# Altium integrated library Motorola Microcontroller 8-Bit.IntLib: 909 symbols (part 3 of 31)
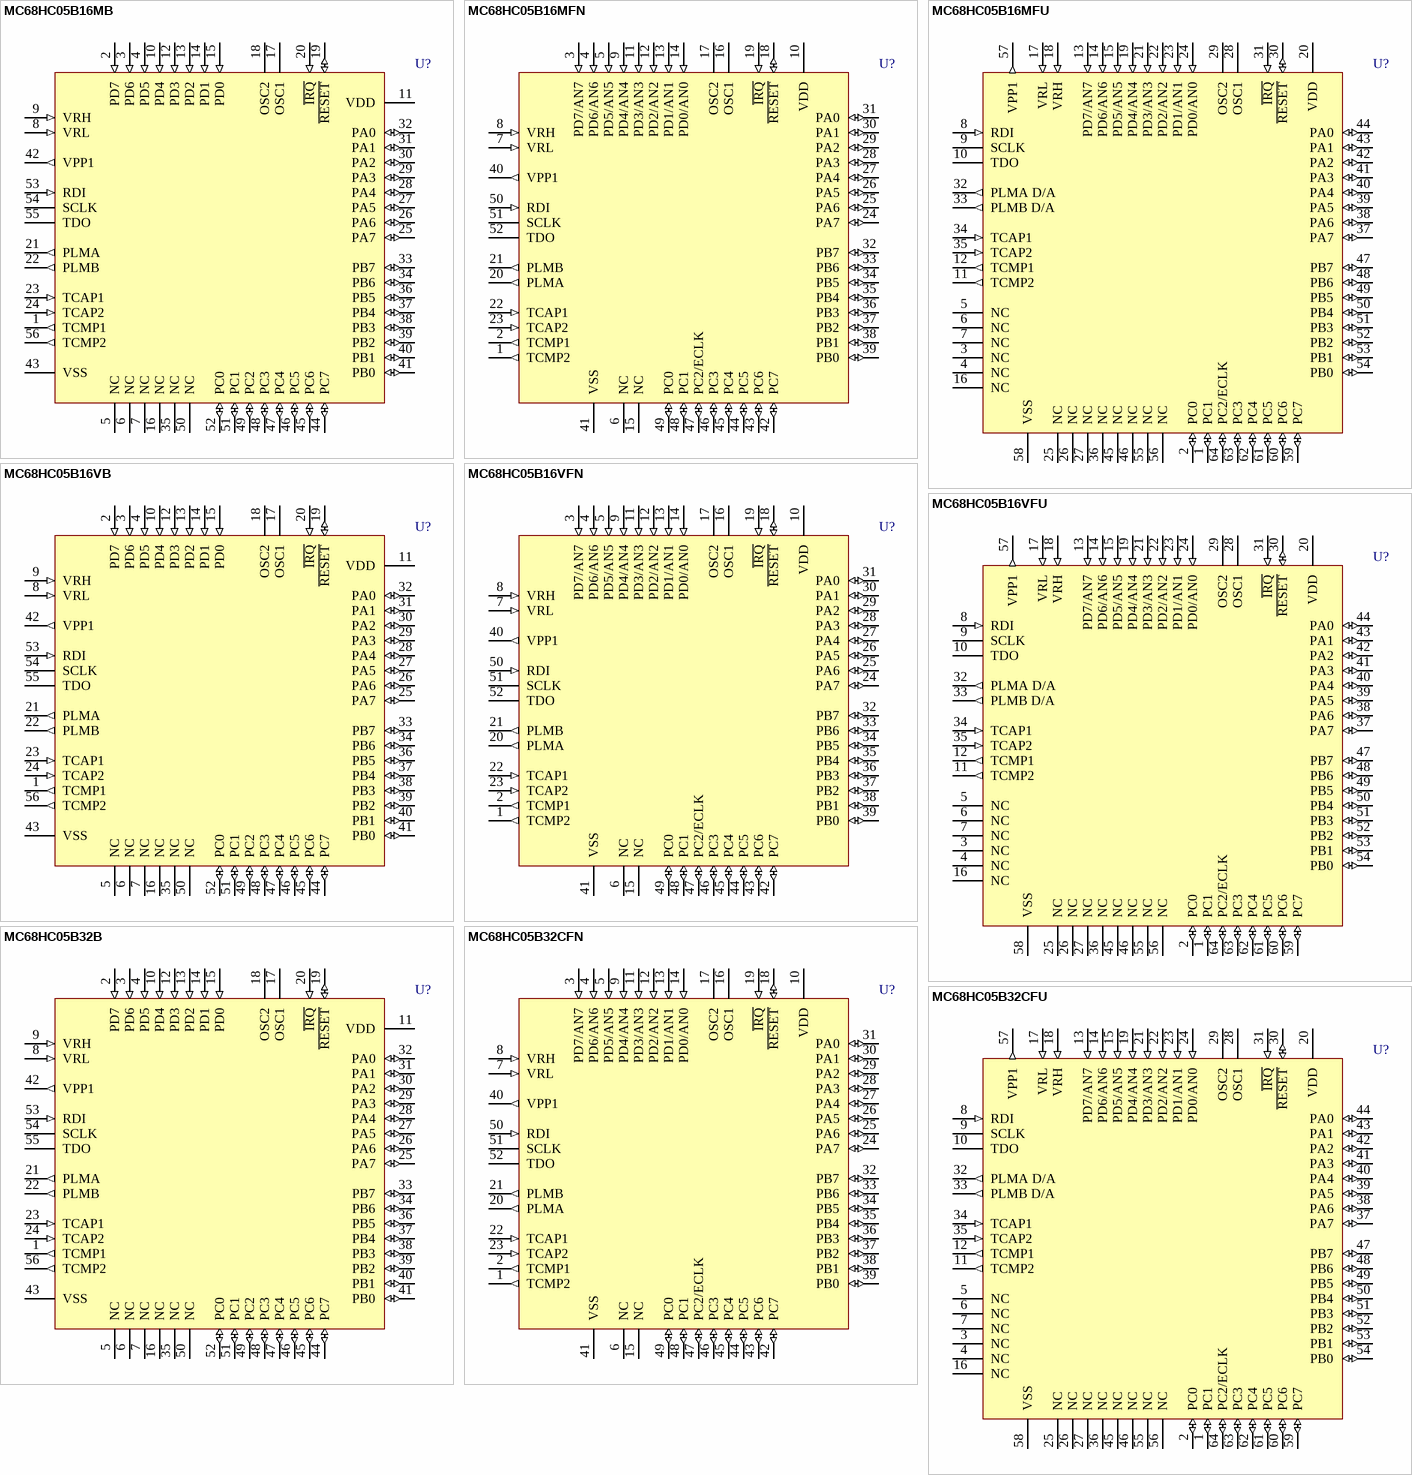
[diagram p115: symbols MC68HC05B16MB to MC68HC05B32CFU]

## MC68HC05B16VFU
designator U?
8-Bit Microcontroller; Published: 17-Jan-2003; LatestRevisionDate: 13-Apr-2006; LatestRevisionNote: IPC-7351 Footprint Added.; DatasheetVersion: Rev 4, 1999; PackageVersion: rev4, Jul-2002; PackageReference: 840C; Publisher: Altium Limited; PackageDescription: 64-Pin Quad Flat Pack 0.8 mm Pitch; ComponentLink1Description: Manufacturer Link; ComponentLink1URL: http://www.freescale.com/; ComponentLink2Description: Datasheet; ComponentLink2URL: http://www.freescale.com/files/microcontrollers/doc/data_sheet/MC68HC05B6.pdf
footprint 840C_N (QFP, 64-Leads, Body 14x14mm, Pitch 0.8mm, IPC Medium Density)
footprint 840C_L (QFP, 64-Leads, Body 14x14mm, Pitch 0.8mm, IPC High Density)
footprint 840C_M (QFP, 64-Leads, Body 14x14mm, Pitch 0.8mm, IPC Low Density)
3D model MC68HC05-840C (64-Pin Quad Flat Pack 0.8 mm Pitch)
pins: 1 PC1 (io), 2 PC0 (io), 3 NC, 4 NC, 5 NC, 6 NC, 7 NC, 8 RDI (in), 9 SCLK (hiz), 10 TDO (hiz), 11 TCMP2 (out), 12 TCMP1 (out), 13 PD7/AN7 (in), 14 PD6/AN6 (in), 15 PD5/AN5 (in), 16 NC, 17 VRL (in), 18 VRH (in), 19 PD4/AN4 (in), 20 VDD (power), 21 PD3/AN3 (in), 22 PD2/AN2 (in), 23 PD1/AN1 (in), 24 PD0/AN0 (in), 25 NC, 26 NC, 27 NC, 28 OSC1, 29 OSC2, 30 ~{RESET} (io), 31 ~{IRQ} (in), 32 PLMA D/A (out), 33 PLMB D/A (out), 34 TCAP1 (in), 35 TCAP2 (in), 36 NC, 37 PA7 (io), 38 PA6 (io), 39 PA5 (io), 40 PA4 (io), 41 PA3 (io), 42 PA2 (io), 43 PA1 (io), 44 PA0 (io), 45 NC, 46 NC, 47 PB7 (io), 48 PB6 (io), 49 PB5 (io), 50 PB4 (io), 51 PB3 (io), 52 PB2 (io), 53 PB1 (io), 54 PB0 (io), 55 NC, 56 NC, 57 VPP1 (out), 58 VSS (power), 59 PC7 (io), 60 PC6 (io), 61 PC5 (io), 62 PC4 (io), 63 PC3 (io), 64 PC2/ECLK (io)

## MC68HC05B32B
designator U?
8-Bit Microcontroller; Published: 17-Jan-2003; LatestRevisionDate: 06-Jun-2005; LatestRevisionNote: Stylized 3D Model Added.; DatasheetVersion: Rev 4, 1999; PackageVersion: rev4, 1999; PackageReference: 859-01; Publisher: Altium Limited; PackageDescription: DIP; 56 Leads; Row Spacing 15.24 mm; Pitch 1.778 mm; ComponentLink1Description: Manufacturer Link; ComponentLink1URL: http://www.freescale.com/; ComponentLink2Description: Datasheet; ComponentLink2URL: http://www.freescale.com/files/microcontrollers/doc/data_sheet/MC68HC05B6.pdf
footprint 859-01 (DIP; 56 Leads; Row Spacing 15.24 mm; Pitch 1.778 mm)
3D model 859-01 (DIP; 56 Leads; Row Spacing 15.24 mm; Pitch 1.778 mm)
pins: 1 TCMP1 (out), 2 PD7 (in), 3 PD6 (in), 4 PD5 (in), 5 NC, 6 NC, 7 NC, 8 VRL (in), 9 VRH (in), 10 PD4 (in), 11 VDD (power), 12 PD3 (in), 13 PD2 (in), 14 PD1 (in), 15 PD0 (in), 16 NC, 17 OSC1, 18 OSC2, 19 ~{RESET} (io), 20 ~{IRQ} (in), 21 PLMA (out), 22 PLMB (out), 23 TCAP1 (in), 24 TCAP2 (in), 25 PA7 (io), 26 PA6 (io), 27 PA5 (io), 28 PA4 (io), 29 PA3 (io), 30 PA2 (io), 31 PA1 (io), 32 PA0 (io), 33 PB7 (io), 34 PB6 (io), 35 NC, 36 PB5 (io), 37 PB4 (io), 38 PB3 (io), 39 PB2 (io), 40 PB1 (io), 41 PB0 (io), 42 VPP1 (out), 43 VSS (power), 44 PC7 (io), 45 PC6 (io), 46 PC5 (io), 47 PC4 (io), 48 PC3 (io), 49 PC2 (io), 50 NC, 51 PC1 (io), 52 PC0 (io), 53 RDI (in), 54 SCLK (hiz), 55 TDO (hiz), 56 TCMP2 (out)

## MC68HC05B32CFN
designator U?
8-Bit Microcontroller; Published: 17-Jan-2003; LatestRevisionDate: 13-Apr-2006; LatestRevisionNote: IPC-7351 Footprint Added.; DatasheetVersion: Rev 4, 1999; PackageVersion: rev3, 1997; PackageReference: 778-02; Publisher: Altium Limited; PackageDescription: 52-Pin Plastic Leaded Chip Carrier 1.27 mm Pitch; ComponentLink1Description: Manufacturer Link; ComponentLink1URL: http://www.freescale.com/; ComponentLink2Description: Datasheet; ComponentLink2URL: http://www.freescale.com/files/microcontrollers/doc/data_sheet/MC68HC05B6.pdf
footprint 778-02_N (Leaded Chip Carrier, 52-Leads, Body 19x19mm, Pitch 1.27mm, IPC Medium Density)
footprint 778-02_L (Leaded Chip Carrier, 52-Leads, Body 19x19mm, Pitch 1.27mm, IPC High Density)
footprint 778-02_M (Leaded Chip Carrier, 52-Leads, Body 19x19mm, Pitch 1.27mm, IPC Low Density)
3D model MC68HC05-778-02 (52-Pin Plastic Leaded Chip Carrier 1.27 mm Pitch)
pins: 1 TCMP2 (out), 2 TCMP1 (out), 3 PD7/AN7 (in), 4 PD6/AN6 (in), 5 PD5/AN5 (in), 6 NC, 7 VRL (in), 8 VRH (in), 9 PD4/AN4 (in), 10 VDD (power), 11 PD3/AN3 (in), 12 PD2/AN2 (in), 13 PD1/AN1 (in), 14 PD0/AN0 (in), 15 NC, 16 OSC1, 17 OSC2, 18 ~{RESET} (io), 19 ~{IRQ} (in), 20 PLMA (out), 21 PLMB (out), 22 TCAP1 (in), 23 TCAP2 (in), 24 PA7 (io), 25 PA6 (io), 26 PA5 (io), 27 PA4 (io), 28 PA3 (io), 29 PA2 (io), 30 PA1 (io), 31 PA0 (io), 32 PB7 (io), 33 PB6 (io), 34 PB5 (io), 35 PB4 (io), 36 PB3 (io), 37 PB2 (io), 38 PB1 (io), 39 PB0 (io), 40 VPP1 (out), 41 VSS (power), 42 PC7 (io), 43 PC6 (io), 44 PC5 (io), 45 PC4 (io), 46 PC3 (io), 47 PC2/ECLK (io), 48 PC1 (io), 49 PC0 (io), 50 RDI (in), 51 SCLK (hiz), 52 TDO (hiz)

## MC68HC05B32CFU
designator U?
8-Bit Microcontroller; Published: 17-Jan-2003; LatestRevisionDate: 13-Apr-2006; LatestRevisionNote: IPC-7351 Footprint Added.; DatasheetVersion: Rev 4, 1999; PackageVersion: rev4, Jul-2002; PackageReference: 840C; Publisher: Altium Limited; PackageDescription: 64-Pin Quad Flat Pack 0.8 mm Pitch; ComponentLink1Description: Manufacturer Link; ComponentLink1URL: http://www.freescale.com/; ComponentLink2Description: Datasheet; ComponentLink2URL: http://www.freescale.com/files/microcontrollers/doc/data_sheet/MC68HC05B6.pdf
footprint 840C_N (QFP, 64-Leads, Body 14x14mm, Pitch 0.8mm, IPC Medium Density)
footprint 840C_L (QFP, 64-Leads, Body 14x14mm, Pitch 0.8mm, IPC High Density)
footprint 840C_M (QFP, 64-Leads, Body 14x14mm, Pitch 0.8mm, IPC Low Density)
3D model MC68HC05-840C (64-Pin Quad Flat Pack 0.8 mm Pitch)
pins: 1 PC1 (io), 2 PC0 (io), 3 NC, 4 NC, 5 NC, 6 NC, 7 NC, 8 RDI (in), 9 SCLK (hiz), 10 TDO (hiz), 11 TCMP2 (out), 12 TCMP1 (out), 13 PD7/AN7 (in), 14 PD6/AN6 (in), 15 PD5/AN5 (in), 16 NC, 17 VRL (in), 18 VRH (in), 19 PD4/AN4 (in), 20 VDD (power), 21 PD3/AN3 (in), 22 PD2/AN2 (in), 23 PD1/AN1 (in), 24 PD0/AN0 (in), 25 NC, 26 NC, 27 NC, 28 OSC1, 29 OSC2, 30 ~{RESET} (io), 31 ~{IRQ} (in), 32 PLMA D/A (out), 33 PLMB D/A (out), 34 TCAP1 (in), 35 TCAP2 (in), 36 NC, 37 PA7 (io), 38 PA6 (io), 39 PA5 (io), 40 PA4 (io), 41 PA3 (io), 42 PA2 (io), 43 PA1 (io), 44 PA0 (io), 45 NC, 46 NC, 47 PB7 (io), 48 PB6 (io), 49 PB5 (io), 50 PB4 (io), 51 PB3 (io), 52 PB2 (io), 53 PB1 (io), 54 PB0 (io), 55 NC, 56 NC, 57 VPP1 (out), 58 VSS (power), 59 PC7 (io), 60 PC6 (io), 61 PC5 (io), 62 PC4 (io), 63 PC3 (io), 64 PC2/ECLK (io)

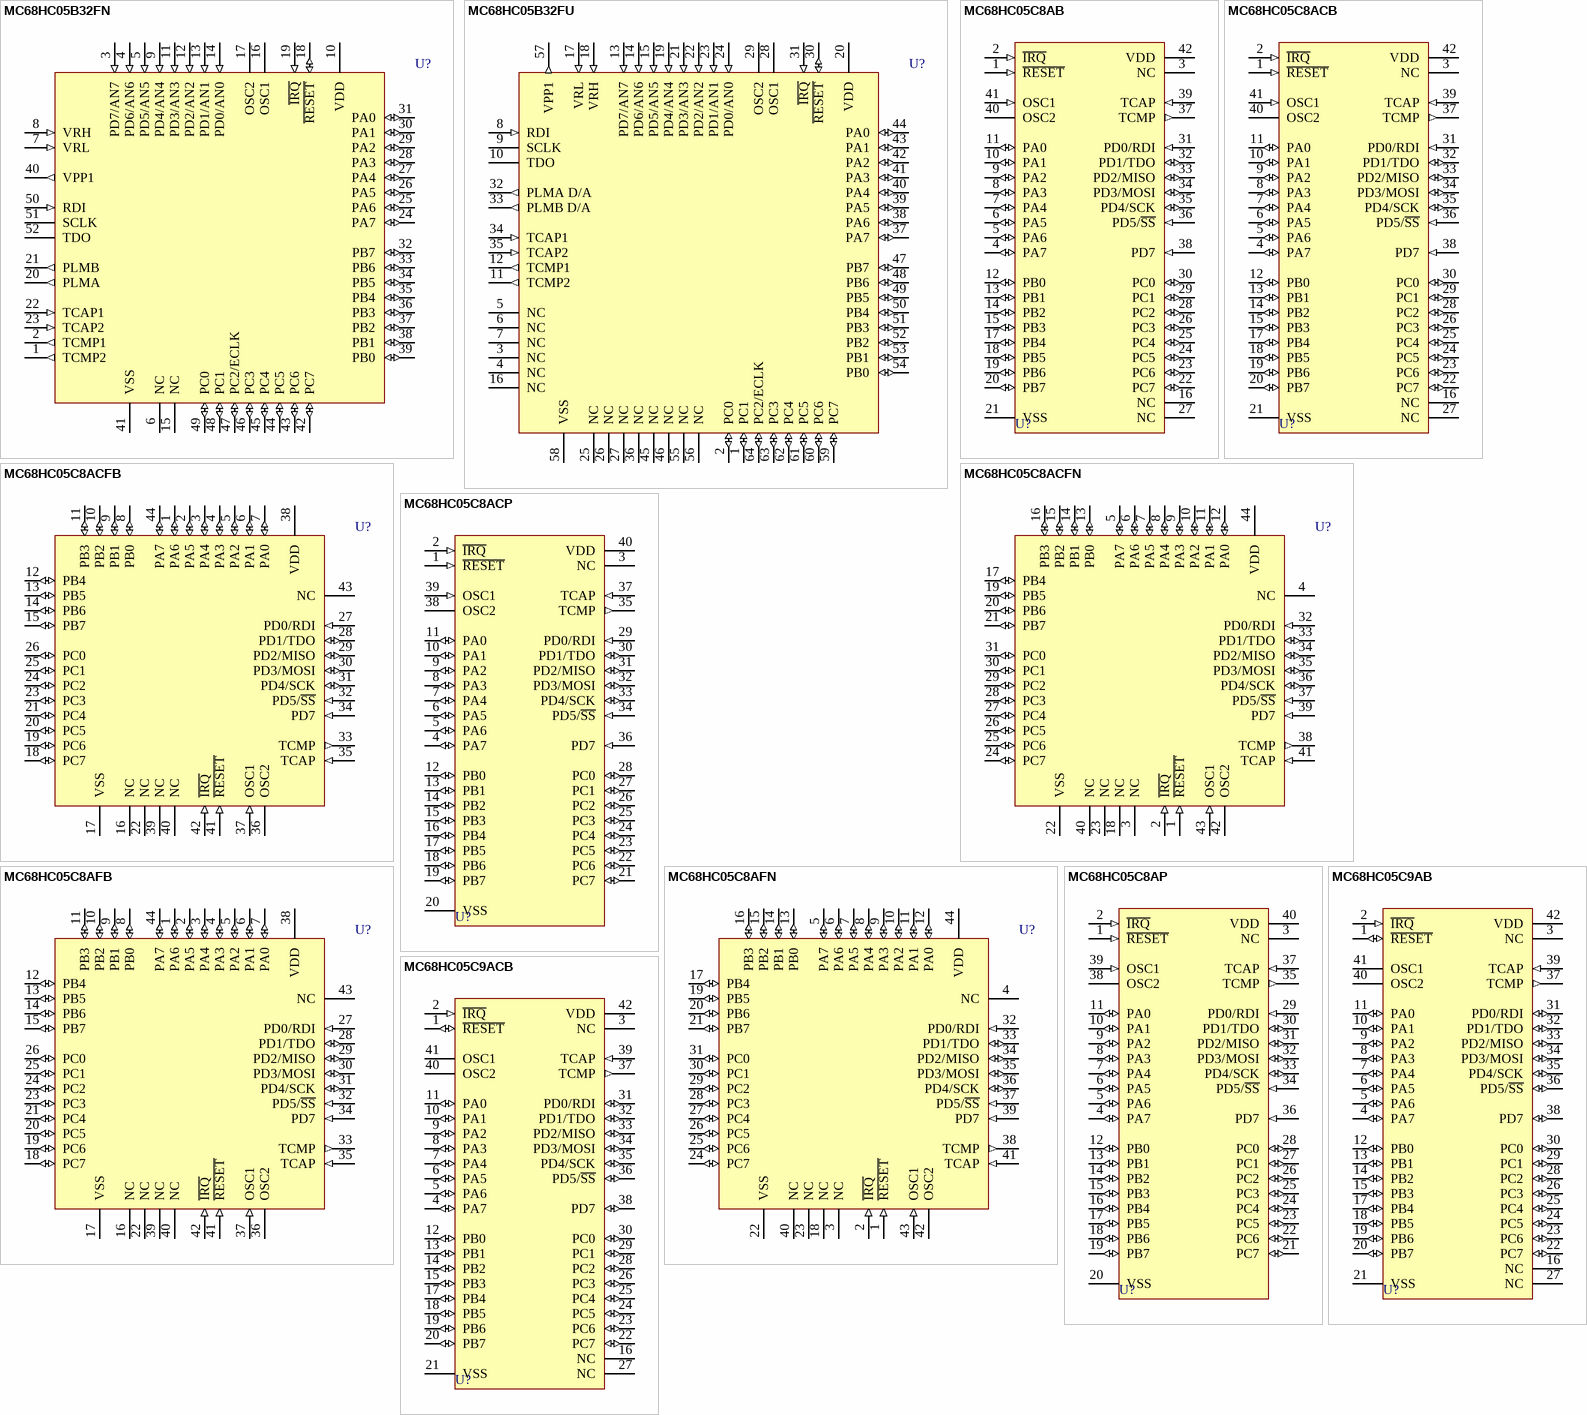
[diagram p7: symbols MC68HC05B32FN to MC68HC05C9ACB]

## MC68HC05B32FN
designator U?
8-Bit Microcontroller; Published: 17-Jan-2003; LatestRevisionDate: 13-Apr-2006; LatestRevisionNote: IPC-7351 Footprint Added.; DatasheetVersion: Rev 4, 1999; PackageVersion: rev3, 1997; PackageReference: 778-02; Publisher: Altium Limited; PackageDescription: 52-Pin Plastic Leaded Chip Carrier 1.27 mm Pitch; ComponentLink1Description: Manufacturer Link; ComponentLink1URL: http://www.freescale.com/; ComponentLink2Description: Datasheet; ComponentLink2URL: http://www.freescale.com/files/microcontrollers/doc/data_sheet/MC68HC05B6.pdf
footprint 778-02_N (Leaded Chip Carrier, 52-Leads, Body 19x19mm, Pitch 1.27mm, IPC Medium Density)
footprint 778-02_L (Leaded Chip Carrier, 52-Leads, Body 19x19mm, Pitch 1.27mm, IPC High Density)
footprint 778-02_M (Leaded Chip Carrier, 52-Leads, Body 19x19mm, Pitch 1.27mm, IPC Low Density)
3D model MC68HC05-778-02 (52-Pin Plastic Leaded Chip Carrier 1.27 mm Pitch)
pins: 1 TCMP2 (out), 2 TCMP1 (out), 3 PD7/AN7 (in), 4 PD6/AN6 (in), 5 PD5/AN5 (in), 6 NC, 7 VRL (in), 8 VRH (in), 9 PD4/AN4 (in), 10 VDD (power), 11 PD3/AN3 (in), 12 PD2/AN2 (in), 13 PD1/AN1 (in), 14 PD0/AN0 (in), 15 NC, 16 OSC1, 17 OSC2, 18 ~{RESET} (io), 19 ~{IRQ} (in), 20 PLMA (out), 21 PLMB (out), 22 TCAP1 (in), 23 TCAP2 (in), 24 PA7 (io), 25 PA6 (io), 26 PA5 (io), 27 PA4 (io), 28 PA3 (io), 29 PA2 (io), 30 PA1 (io), 31 PA0 (io), 32 PB7 (io), 33 PB6 (io), 34 PB5 (io), 35 PB4 (io), 36 PB3 (io), 37 PB2 (io), 38 PB1 (io), 39 PB0 (io), 40 VPP1 (out), 41 VSS (power), 42 PC7 (io), 43 PC6 (io), 44 PC5 (io), 45 PC4 (io), 46 PC3 (io), 47 PC2/ECLK (io), 48 PC1 (io), 49 PC0 (io), 50 RDI (in), 51 SCLK (hiz), 52 TDO (hiz)

## MC68HC05B32FU
designator U?
8-Bit Microcontroller; Published: 17-Jan-2003; LatestRevisionDate: 13-Apr-2006; LatestRevisionNote: IPC-7351 Footprint Added.; DatasheetVersion: Rev 4, 1999; PackageVersion: rev4, Jul-2002; PackageReference: 840C; Publisher: Altium Limited; PackageDescription: 64-Pin Quad Flat Pack 0.8 mm Pitch; ComponentLink1Description: Manufacturer Link; ComponentLink1URL: http://www.freescale.com/; ComponentLink2Description: Datasheet; ComponentLink2URL: http://www.freescale.com/files/microcontrollers/doc/data_sheet/MC68HC05B6.pdf
footprint 840C_N (QFP, 64-Leads, Body 14x14mm, Pitch 0.8mm, IPC Medium Density)
footprint 840C_L (QFP, 64-Leads, Body 14x14mm, Pitch 0.8mm, IPC High Density)
footprint 840C_M (QFP, 64-Leads, Body 14x14mm, Pitch 0.8mm, IPC Low Density)
3D model MC68HC05-840C (64-Pin Quad Flat Pack 0.8 mm Pitch)
pins: 1 PC1 (io), 2 PC0 (io), 3 NC, 4 NC, 5 NC, 6 NC, 7 NC, 8 RDI (in), 9 SCLK (hiz), 10 TDO (hiz), 11 TCMP2 (out), 12 TCMP1 (out), 13 PD7/AN7 (in), 14 PD6/AN6 (in), 15 PD5/AN5 (in), 16 NC, 17 VRL (in), 18 VRH (in), 19 PD4/AN4 (in), 20 VDD (power), 21 PD3/AN3 (in), 22 PD2/AN2 (in), 23 PD1/AN1 (in), 24 PD0/AN0 (in), 25 NC, 26 NC, 27 NC, 28 OSC1, 29 OSC2, 30 ~{RESET} (io), 31 ~{IRQ} (in), 32 PLMA D/A (out), 33 PLMB D/A (out), 34 TCAP1 (in), 35 TCAP2 (in), 36 NC, 37 PA7 (io), 38 PA6 (io), 39 PA5 (io), 40 PA4 (io), 41 PA3 (io), 42 PA2 (io), 43 PA1 (io), 44 PA0 (io), 45 NC, 46 NC, 47 PB7 (io), 48 PB6 (io), 49 PB5 (io), 50 PB4 (io), 51 PB3 (io), 52 PB2 (io), 53 PB1 (io), 54 PB0 (io), 55 NC, 56 NC, 57 VPP1 (out), 58 VSS (power), 59 PC7 (io), 60 PC6 (io), 61 PC5 (io), 62 PC4 (io), 63 PC3 (io), 64 PC2/ECLK (io)

## MC68HC05C8AB
designator U?
8-Bit Microcontroller; Note: If MC68HC705C8A OTPs are to be used in the same applicaion, pin 3 should be tied to VDD.; Published: 17-Jan-2003; LatestRevisionDate: 06-Jun-2005; LatestRevisionNote: Stylized 3D Model Added.; DatasheetVersion: Rev 3.0, August 5, 1997; PackageVersion: rev5, Apr-2002; PackageReference: 858-01; Publisher: Altium Limited; PackageDescription: DIP, Plastic; 42 Leads; Row Spacing 15.24 mm; Pitch 1.778 mm; ComponentLink1Description: Manufacturer Link; ComponentLink1URL: http://www.freescale.com/; ComponentLink2Description: Datasheet; ComponentLink2URL: http://www.freescale.com/files/microcontrollers/doc/data_sheet/MC68HC05C8A.pdf
footprint 858-01 (DIP, Plastic; 42 Leads; Row Spacing 15.24 mm; Pitch 1.778 mm)
3D model 858-01 (DIP, Plastic; 42 Leads; Row Spacing 15.24 mm; Pitch 1.778 mm)
pins: 1 ~{RESET} (in), 2 ~{IRQ} (in), 3 NC, 4 PA7 (io), 5 PA6 (io), 6 PA5 (io), 7 PA4 (io), 8 PA3 (io), 9 PA2 (io), 10 PA1 (io), 11 PA0 (io), 12 PB0 (io), 13 PB1 (io), 14 PB2 (io), 15 PB3 (io), 16 NC, 17 PB4 (io), 18 PB5 (io), 19 PB6 (io), 20 PB7 (io), 21 VSS (power), 22 PC7 (io), 23 PC6 (io), 24 PC5 (io), 25 PC4 (io), 26 PC3 (io), 27 NC, 28 PC2 (io), 29 PC1 (io), 30 PC0 (io), 31 PD0/RDI (in), 32 PD1/TDO (io), 33 PD2/MISO (io), 34 PD3/MOSI (io), 35 PD4/SCK (io), 36 PD5/~{SS} (in), 37 TCMP (out), 38 PD7 (in), 39 TCAP (in), 40 OSC2, 41 OSC1 (in), 42 VDD (power)

## MC68HC05C8ACB
designator U?
8-Bit Microcontroller; Note: If MC68HC705C8A OTPs are to be used in the same applicaion, pin 3 should be tied to VDD.; Published: 17-Jan-2003; LatestRevisionDate: 06-Jun-2005; LatestRevisionNote: Stylized 3D Model Added.; DatasheetVersion: Rev 3.0, August 5, 1997; PackageVersion: rev5, Apr-2002; PackageReference: 858-01; Publisher: Altium Limited; PackageDescription: DIP, Plastic; 42 Leads; Row Spacing 15.24 mm; Pitch 1.778 mm; ComponentLink1Description: Manufacturer Link; ComponentLink1URL: http://www.freescale.com/; ComponentLink2Description: Datasheet; ComponentLink2URL: http://www.freescale.com/files/microcontrollers/doc/data_sheet/MC68HC05C8A.pdf
footprint 858-01 (DIP, Plastic; 42 Leads; Row Spacing 15.24 mm; Pitch 1.778 mm)
3D model 858-01 (DIP, Plastic; 42 Leads; Row Spacing 15.24 mm; Pitch 1.778 mm)
pins: 1 ~{RESET} (in), 2 ~{IRQ} (in), 3 NC, 4 PA7 (io), 5 PA6 (io), 6 PA5 (io), 7 PA4 (io), 8 PA3 (io), 9 PA2 (io), 10 PA1 (io), 11 PA0 (io), 12 PB0 (io), 13 PB1 (io), 14 PB2 (io), 15 PB3 (io), 16 NC, 17 PB4 (io), 18 PB5 (io), 19 PB6 (io), 20 PB7 (io), 21 VSS (power), 22 PC7 (io), 23 PC6 (io), 24 PC5 (io), 25 PC4 (io), 26 PC3 (io), 27 NC, 28 PC2 (io), 29 PC1 (io), 30 PC0 (io), 31 PD0/RDI (in), 32 PD1/TDO (io), 33 PD2/MISO (io), 34 PD3/MOSI (io), 35 PD4/SCK (io), 36 PD5/~{SS} (in), 37 TCMP (out), 38 PD7 (in), 39 TCAP (in), 40 OSC2, 41 OSC1 (in), 42 VDD (power)

## MC68HC05C8ACFB
designator U?
8-Bit Microcontroller; Note: If MC68HC705C8A OTPs are to be used in the same applicaion, pin 43 should be tied to VDD.; Published: 17-Jan-2003; LatestRevisionDate: 13-Apr-2006; LatestRevisionNote: IPC-7351 Footprint Added.; DatasheetVersion: Rev 3.0, August 5, 1997; PackageVersion: rev5, Apr-2002; PackageReference: 824A-01; Publisher: Altium Limited; PackageDescription: 44-Pin Quad Flat Pack 0.8 mm Pitch; Code_JEDEC: MS-022-AB; Code_IPC: QFP80P1320X1320-44; ComponentLink1Description: Manufacturer Link; ComponentLink1URL: http://www.freescale.com/; ComponentLink2Description: Datasheet; ComponentLink2URL: http://www.freescale.com/files/microcontrollers/doc/data_sheet/MC68HC05C8A.pdf
footprint 824A-01_N (QFP, 44-Leads, Body 10x10mm, Pitch 0.8mm, IPC Medium Density)
footprint 824A-01_L (QFP, 44-Leads, Body 10x10mm, Pitch 0.8mm, IPC High Density)
footprint 824A-01_M (QFP, 44-Leads, Body 10x10mm, Pitch 0.8mm, IPC Low Density)
3D model MC68HC05-824A-01 (44-Pin Quad Flat Pack 0.8 mm Pitch)
pins: 1 PA6 (io), 2 PA5 (io), 3 PA4 (io), 4 PA3 (io), 5 PA2 (io), 6 PA1 (io), 7 PA0 (io), 8 PB0 (io), 9 PB1 (io), 10 PB2 (io), 11 PB3 (io), 12 PB4 (io), 13 PB5 (io), 14 PB6 (io), 15 PB7 (io), 16 NC, 17 VSS (power), 18 PC7 (io), 19 PC6 (io), 20 PC5 (io), 21 PC4 (io), 22 NC, 23 PC3 (io), 24 PC2 (io), 25 PC1 (io), 26 PC0 (io), 27 PD0/RDI (in), 28 PD1/TDO (io), 29 PD2/MISO (io), 30 PD3/MOSI (io), 31 PD4/SCK (io), 32 PD5/~{SS} (in), 33 TCMP (out), 34 PD7 (in), 35 TCAP (in), 36 OSC2, 37 OSC1 (in), 38 VDD (power), 39 NC, 40 NC, 41 ~{RESET} (in), 42 ~{IRQ} (in), 43 NC, 44 PA7 (io)

## MC68HC05C8ACFN
designator U?
8-Bit Microcontroller; Note: If MC68HC705C8A OTPs are to be used in the same applicaion, pin 4 should be tied to VDD.; Published: 17-Jan-2003; LatestRevisionDate: 13-Apr-2006; LatestRevisionNote: IPC-7351 Footprint Added.; DatasheetVersion: Rev 3.0, August 5, 1997; PackageVersion: rev3, Feb-2002; PackageReference: 777-02; Publisher: Altium Limited; PackageDescription: 44-Pin Plastic Leaded Chip Carrier 1.27 mm Pitch; ComponentLink1Description: Manufacturer Link; ComponentLink1URL: http://www.freescale.com/; ComponentLink2Description: Datasheet; ComponentLink2URL: http://www.freescale.com/files/microcontrollers/doc/data_sheet/MC68HC05C8A.pdf
footprint 777-02_N (Leaded Chip Carrier, 44-Leads, Body 16.6x16.6mm, Pitch 1.27mm, IPC Medium Density)
footprint 777-02_L (Leaded Chip Carrier, 44-Leads, Body 16.6x16.6mm, Pitch 1.27mm, IPC High Density)
footprint 777-02_M (Leaded Chip Carrier, 44-Leads, Body 16.6x16.6mm, Pitch 1.27mm, IPC Low Density)
3D model MC68HC05-777-02 (44-Pin Plastic Leaded Chip Carrier 1.27 mm Pitch)
pins: 1 ~{RESET} (in), 2 ~{IRQ} (in), 3 NC, 4 NC, 5 PA7 (io), 6 PA6 (io), 7 PA5 (io), 8 PA4 (io), 9 PA3 (io), 10 PA2 (io), 11 PA1 (io), 12 PA0 (io), 13 PB0 (io), 14 PB1 (io), 15 PB2 (io), 16 PB3 (io), 17 PB4 (io), 18 NC, 19 PB5 (io), 20 PB6 (io), 21 PB7 (io), 22 VSS (power), 23 NC, 24 PC7 (io), 25 PC6 (io), 26 PC5 (io), 27 PC4 (io), 28 PC3 (io), 29 PC2 (io), 30 PC1 (io), 31 PC0 (io), 32 PD0/RDI (in), 33 PD1/TDO (io), 34 PD2/MISO (io), 35 PD3/MOSI (io), 36 PD4/SCK (io), 37 PD5/~{SS} (in), 38 TCMP (out), 39 PD7 (in), 40 NC, 41 TCAP (in), 42 OSC2, 43 OSC1 (in), 44 VDD (power)

## MC68HC05C8ACP
designator U?
8-Bit Microcontroller; Note: If MC68HC705C8A OTPs are to be used in the same applicaion, pin 3 should be tied to VDD.; Published: 17-Jan-2003; LatestRevisionDate: 06-Jun-2005; LatestRevisionNote: Stylized 3D Model Added.; DatasheetVersion: Rev 3.0, August 5, 1997; PackageReference: 711-03; Publisher: Altium Limited; PackageDescription: DIP; 40 Leads; Row Spacing 15.24 mm; Pitch 2.54 mm; ComponentLink1Description: Manufacturer Link; ComponentLink1URL: http://www.freescale.com/; ComponentLink2Description: Datasheet; ComponentLink2URL: http://www.freescale.com/files/microcontrollers/doc/data_sheet/MC68HC05C8A.pdf
footprint 711-03 (DIP; 40 Leads; Row Spacing 15.24 mm; Pitch 2.54 mm)
3D model 711-03 (DIP; 40 Leads; Row Spacing 15.24 mm; Pitch 2.54 mm)
pins: 1 ~{RESET} (in), 2 ~{IRQ} (in), 3 NC, 4 PA7 (io), 5 PA6 (io), 6 PA5 (io), 7 PA4 (io), 8 PA3 (io), 9 PA2 (io), 10 PA1 (io), 11 PA0 (io), 12 PB0 (io), 13 PB1 (io), 14 PB2 (io), 15 PB3 (io), 16 PB4 (io), 17 PB5 (io), 18 PB6 (io), 19 PB7 (io), 20 VSS (power), 21 PC7 (io), 22 PC6 (io), 23 PC5 (io), 24 PC4 (io), 25 PC3 (io), 26 PC2 (io), 27 PC1 (io), 28 PC0 (io), 29 PD0/RDI (in), 30 PD1/TDO (io), 31 PD2/MISO (io), 32 PD3/MOSI (io), 33 PD4/SCK (io), 34 PD5/~{SS} (in), 35 TCMP (out), 36 PD7 (in), 37 TCAP (in), 38 OSC2, 39 OSC1 (in), 40 VDD (power)

## MC68HC05C8AFB
designator U?
8-Bit Microcontroller; Note: If MC68HC705C8A OTPs are to be used in the same applicaion, pin 43 should be tied to VDD.; Published: 17-Jan-2003; LatestRevisionDate: 13-Apr-2006; LatestRevisionNote: IPC-7351 Footprint Added.; DatasheetVersion: Rev 3.0, August 5, 1997; PackageVersion: rev5, Apr-2002; PackageReference: 824A-01; Publisher: Altium Limited; PackageDescription: 44-Pin Quad Flat Pack 0.8 mm Pitch; Code_JEDEC: MS-022-AB; Code_IPC: QFP80P1320X1320-44; ComponentLink1Description: Manufacturer Link; ComponentLink1URL: http://www.freescale.com/; ComponentLink2Description: Datasheet; ComponentLink2URL: http://www.freescale.com/files/microcontrollers/doc/data_sheet/MC68HC05C8A.pdf
footprint 824A-01_N (QFP, 44-Leads, Body 10x10mm, Pitch 0.8mm, IPC Medium Density)
footprint 824A-01_L (QFP, 44-Leads, Body 10x10mm, Pitch 0.8mm, IPC High Density)
footprint 824A-01_M (QFP, 44-Leads, Body 10x10mm, Pitch 0.8mm, IPC Low Density)
3D model MC68HC05-824A-01 (44-Pin Quad Flat Pack 0.8 mm Pitch)
pins: 1 PA6 (io), 2 PA5 (io), 3 PA4 (io), 4 PA3 (io), 5 PA2 (io), 6 PA1 (io), 7 PA0 (io), 8 PB0 (io), 9 PB1 (io), 10 PB2 (io), 11 PB3 (io), 12 PB4 (io), 13 PB5 (io), 14 PB6 (io), 15 PB7 (io), 16 NC, 17 VSS (power), 18 PC7 (io), 19 PC6 (io), 20 PC5 (io), 21 PC4 (io), 22 NC, 23 PC3 (io), 24 PC2 (io), 25 PC1 (io), 26 PC0 (io), 27 PD0/RDI (in), 28 PD1/TDO (io), 29 PD2/MISO (io), 30 PD3/MOSI (io), 31 PD4/SCK (io), 32 PD5/~{SS} (in), 33 TCMP (out), 34 PD7 (in), 35 TCAP (in), 36 OSC2, 37 OSC1 (in), 38 VDD (power), 39 NC, 40 NC, 41 ~{RESET} (in), 42 ~{IRQ} (in), 43 NC, 44 PA7 (io)

## MC68HC05C8AFN
designator U?
8-Bit Microcontroller; Note: If MC68HC705C8A OTPs are to be used in the same applicaion, pin 4 should be tied to VDD.; Published: 17-Jan-2003; LatestRevisionDate: 13-Apr-2006; LatestRevisionNote: IPC-7351 Footprint Added.; DatasheetVersion: Rev 3.0, August 5, 1997; PackageVersion: rev3, Feb-2002; PackageReference: 777-02; Publisher: Altium Limited; PackageDescription: 44-Pin Plastic Leaded Chip Carrier 1.27 mm Pitch; ComponentLink1Description: Manufacturer Link; ComponentLink1URL: http://www.freescale.com/; ComponentLink2Description: Datasheet; ComponentLink2URL: http://www.freescale.com/files/microcontrollers/doc/data_sheet/MC68HC05C8A.pdf
footprint 777-02_N (Leaded Chip Carrier, 44-Leads, Body 16.6x16.6mm, Pitch 1.27mm, IPC Medium Density)
footprint 777-02_L (Leaded Chip Carrier, 44-Leads, Body 16.6x16.6mm, Pitch 1.27mm, IPC High Density)
footprint 777-02_M (Leaded Chip Carrier, 44-Leads, Body 16.6x16.6mm, Pitch 1.27mm, IPC Low Density)
3D model MC68HC05-777-02 (44-Pin Plastic Leaded Chip Carrier 1.27 mm Pitch)
pins: 1 ~{RESET} (in), 2 ~{IRQ} (in), 3 NC, 4 NC, 5 PA7 (io), 6 PA6 (io), 7 PA5 (io), 8 PA4 (io), 9 PA3 (io), 10 PA2 (io), 11 PA1 (io), 12 PA0 (io), 13 PB0 (io), 14 PB1 (io), 15 PB2 (io), 16 PB3 (io), 17 PB4 (io), 18 NC, 19 PB5 (io), 20 PB6 (io), 21 PB7 (io), 22 VSS (power), 23 NC, 24 PC7 (io), 25 PC6 (io), 26 PC5 (io), 27 PC4 (io), 28 PC3 (io), 29 PC2 (io), 30 PC1 (io), 31 PC0 (io), 32 PD0/RDI (in), 33 PD1/TDO (io), 34 PD2/MISO (io), 35 PD3/MOSI (io), 36 PD4/SCK (io), 37 PD5/~{SS} (in), 38 TCMP (out), 39 PD7 (in), 40 NC, 41 TCAP (in), 42 OSC2, 43 OSC1 (in), 44 VDD (power)

## MC68HC05C8AP
designator U?
8-Bit Microcontroller; Note: If MC68HC705C8A OTPs are to be used in the same applicaion, pin 3 should be tied to VDD.; Published: 17-Jan-2003; LatestRevisionDate: 06-Jun-2005; LatestRevisionNote: Stylized 3D Model Added.; DatasheetVersion: Rev 3.0, August 5, 1997; PackageReference: 711-03; Publisher: Altium Limited; PackageDescription: DIP; 40 Leads; Row Spacing 15.24 mm; Pitch 2.54 mm; ComponentLink1Description: Manufacturer Link; ComponentLink1URL: http://www.freescale.com/; ComponentLink2Description: Datasheet; ComponentLink2URL: http://www.freescale.com/files/microcontrollers/doc/data_sheet/MC68HC05C8A.pdf
footprint 711-03 (DIP; 40 Leads; Row Spacing 15.24 mm; Pitch 2.54 mm)
3D model 711-03 (DIP; 40 Leads; Row Spacing 15.24 mm; Pitch 2.54 mm)
pins: 1 ~{RESET} (in), 2 ~{IRQ} (in), 3 NC, 4 PA7 (io), 5 PA6 (io), 6 PA5 (io), 7 PA4 (io), 8 PA3 (io), 9 PA2 (io), 10 PA1 (io), 11 PA0 (io), 12 PB0 (io), 13 PB1 (io), 14 PB2 (io), 15 PB3 (io), 16 PB4 (io), 17 PB5 (io), 18 PB6 (io), 19 PB7 (io), 20 VSS (power), 21 PC7 (io), 22 PC6 (io), 23 PC5 (io), 24 PC4 (io), 25 PC3 (io), 26 PC2 (io), 27 PC1 (io), 28 PC0 (io), 29 PD0/RDI (in), 30 PD1/TDO (io), 31 PD2/MISO (io), 32 PD3/MOSI (io), 33 PD4/SCK (io), 34 PD5/~{SS} (in), 35 TCMP (out), 36 PD7 (in), 37 TCAP (in), 38 OSC2, 39 OSC1 (in), 40 VDD (power)

## MC68HC05C9AB
designator U?
8-Bit Microcontroller; Note: If MC68HC705C9A devices are to be used in the same socket, pin 3 should be tied to VDD.; Published: 17-Jan-2003; LatestRevisionDate: 06-Jun-2005; LatestRevisionNote: Stylized 3D Model Added.; DatasheetVersion: Rev 5, 2000; PackageVersion: rev5, Apr-2002; PackageReference: 858-01; Publisher: Altium Limited; PackageDescription: DIP, Plastic; 42 Leads; Row Spacing 15.24 mm; Pitch 1.778 mm; ComponentLink1Description: Manufacturer Link; ComponentLink1URL: http://www.freescale.com/; ComponentLink2Description: Datasheet; ComponentLink2URL: http://www.freescale.com/files/microcontrollers/doc/data_sheet/MC68HC05C9A.pdf
footprint 858-01 (DIP, Plastic; 42 Leads; Row Spacing 15.24 mm; Pitch 1.778 mm)
3D model 858-01 (DIP, Plastic; 42 Leads; Row Spacing 15.24 mm; Pitch 1.778 mm)
pins: 1 ~{RESET} (io), 2 ~{IRQ} (in), 3 NC, 4 PA7 (io), 5 PA6 (io), 6 PA5 (io), 7 PA4 (io), 8 PA3 (io), 9 PA2 (io), 10 PA1 (io), 11 PA0 (io), 12 PB0 (io), 13 PB1 (io), 14 PB2 (io), 15 PB3 (io), 16 NC, 17 PB4 (io), 18 PB5 (io), 19 PB6 (io), 20 PB7 (io), 21 VSS (power), 22 PC7 (io), 23 PC6 (io), 24 PC5 (io), 25 PC4 (io), 26 PC3 (io), 27 NC, 28 PC2 (io), 29 PC1 (io), 30 PC0 (io), 31 PD0/RDI (io), 32 PD1/TDO (io), 33 PD2/MISO (io), 34 PD3/MOSI (io), 35 PD4/SCK (io), 36 PD5/~{SS} (io), 37 TCMP (out), 38 PD7 (io), 39 TCAP (in), 40 OSC2, 41 OSC1, 42 VDD (power)

## MC68HC05C9ACB
designator U?
8-Bit Microcontroller; Note: If MC68HC705C9A devices are to be used in the same socket, pin 3 should be tied to VDD.; Published: 17-Jan-2003; LatestRevisionDate: 06-Jun-2005; LatestRevisionNote: Stylized 3D Model Added.; DatasheetVersion: Rev 5, 2000; PackageVersion: rev5, Apr-2002; PackageReference: 858-01; Publisher: Altium Limited; PackageDescription: DIP, Plastic; 42 Leads; Row Spacing 15.24 mm; Pitch 1.778 mm; ComponentLink1Description: Manufacturer Link; ComponentLink1URL: http://www.freescale.com/; ComponentLink2Description: Datasheet; ComponentLink2URL: http://www.freescale.com/files/microcontrollers/doc/data_sheet/MC68HC05C9A.pdf
footprint 858-01 (DIP, Plastic; 42 Leads; Row Spacing 15.24 mm; Pitch 1.778 mm)
3D model 858-01 (DIP, Plastic; 42 Leads; Row Spacing 15.24 mm; Pitch 1.778 mm)
pins: 1 ~{RESET} (io), 2 ~{IRQ} (in), 3 NC, 4 PA7 (io), 5 PA6 (io), 6 PA5 (io), 7 PA4 (io), 8 PA3 (io), 9 PA2 (io), 10 PA1 (io), 11 PA0 (io), 12 PB0 (io), 13 PB1 (io), 14 PB2 (io), 15 PB3 (io), 16 NC, 17 PB4 (io), 18 PB5 (io), 19 PB6 (io), 20 PB7 (io), 21 VSS (power), 22 PC7 (io), 23 PC6 (io), 24 PC5 (io), 25 PC4 (io), 26 PC3 (io), 27 NC, 28 PC2 (io), 29 PC1 (io), 30 PC0 (io), 31 PD0/RDI (io), 32 PD1/TDO (io), 33 PD2/MISO (io), 34 PD3/MOSI (io), 35 PD4/SCK (io), 36 PD5/~{SS} (io), 37 TCMP (out), 38 PD7 (io), 39 TCAP (in), 40 OSC2, 41 OSC1, 42 VDD (power)

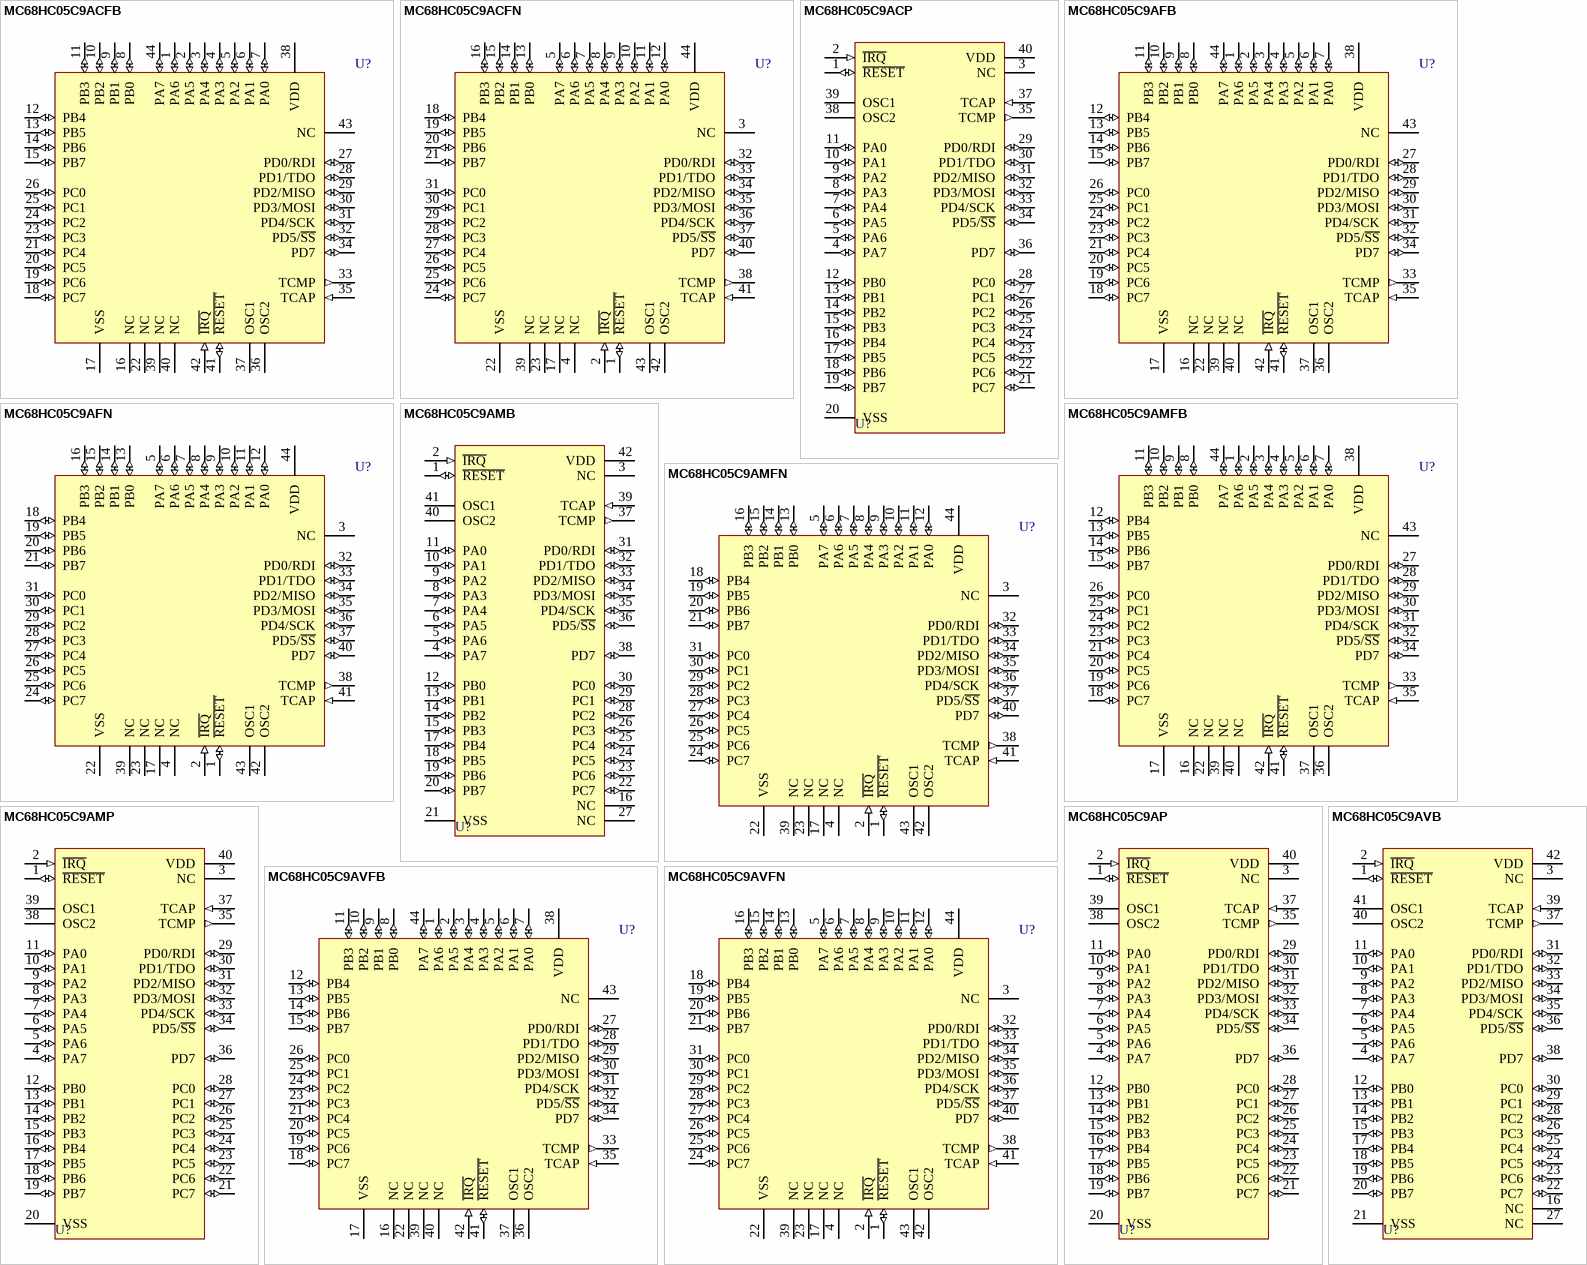
[diagram p8: symbols MC68HC05C9ACFB to MC68HC05C9AVFN]

## MC68HC05C9ACFB
designator U?
8-Bit Microcontroller; Note: If MC68HC705C9A devices are to be used in the same socket, pin 43 should be tied to VDD.; Published: 17-Jan-2003; LatestRevisionDate: 13-Apr-2006; LatestRevisionNote: IPC-7351 Footprint Added.; DatasheetVersion: Rev 5, 2000; PackageVersion: rev5, Apr-2002; PackageReference: 824A-01; Publisher: Altium Limited; PackageDescription: 44-Pin Quad Flat Pack 0.8 mm Pitch; Code_JEDEC: MS-022-AB; Code_IPC: QFP80P1320X1320-44; ComponentLink1Description: Manufacturer Link; ComponentLink1URL: http://www.freescale.com/; ComponentLink2Description: Datasheet; ComponentLink2URL: http://www.freescale.com/files/microcontrollers/doc/data_sheet/MC68HC05C9A.pdf
footprint 824A-01_N (QFP, 44-Leads, Body 10x10mm, Pitch 0.8mm, IPC Medium Density)
footprint 824A-01_L (QFP, 44-Leads, Body 10x10mm, Pitch 0.8mm, IPC High Density)
footprint 824A-01_M (QFP, 44-Leads, Body 10x10mm, Pitch 0.8mm, IPC Low Density)
3D model MC68HC05-824A-01 (44-Pin Quad Flat Pack 0.8 mm Pitch)
pins: 1 PA6 (io), 2 PA5 (io), 3 PA4 (io), 4 PA3 (io), 5 PA2 (io), 6 PA1 (io), 7 PA0 (io), 8 PB0 (io), 9 PB1 (io), 10 PB2 (io), 11 PB3 (io), 12 PB4 (io), 13 PB5 (io), 14 PB6 (io), 15 PB7 (io), 16 NC, 17 VSS (power), 18 PC7 (io), 19 PC6 (io), 20 PC5 (io), 21 PC4 (io), 22 NC, 23 PC3 (io), 24 PC2 (io), 25 PC1 (io), 26 PC0 (io), 27 PD0/RDI (io), 28 PD1/TDO (io), 29 PD2/MISO (io), 30 PD3/MOSI (io), 31 PD4/SCK (io), 32 PD5/~{SS} (io), 33 TCMP (out), 34 PD7 (io), 35 TCAP (in), 36 OSC2, 37 OSC1, 38 VDD (power), 39 NC, 40 NC, 41 ~{RESET} (io), 42 ~{IRQ} (in), 43 NC, 44 PA7 (io)

## MC68HC05C9ACFN
designator U?
8-Bit Microcontroller; Note: If MC68HC705C9A devices are to be used in the same socket, pin 3 should be tied to VDD.; Note: For compatibility with MC68HC05C4A/C8A/C12A devices in 44-pin PLCC, tie pins 17 & 18 together, and tie pins 39 & 40 together.; Note: For compatibility with MC68HC705C8A 44-pin PLCC device, 3 sets of pins should be tied together - pins 17 & 18, 39 & 40, and pins 3, 4, & 44.; Published: 17-Jan-2003; LatestRevisionDate: 13-Apr-2006; LatestRevisionNote: IPC-7351 Footprint Added.; DatasheetVersion: Rev 5, 2000; PackageVersion: rev3, Feb-2002; PackageReference: 777-02; Publisher: Altium Limited; PackageDescription: 44-Pin Plastic Leaded Chip Carrier 1.27 mm Pitch; ComponentLink1Description: Manufacturer Link; ComponentLink1URL: http://www.freescale.com/; ComponentLink2Description: Datasheet; ComponentLink2URL: http://www.freescale.com/files/microcontrollers/doc/data_sheet/MC68HC05C9A.pdf
footprint 777-02_N (Leaded Chip Carrier, 44-Leads, Body 16.6x16.6mm, Pitch 1.27mm, IPC Medium Density)
footprint 777-02_L (Leaded Chip Carrier, 44-Leads, Body 16.6x16.6mm, Pitch 1.27mm, IPC High Density)
footprint 777-02_M (Leaded Chip Carrier, 44-Leads, Body 16.6x16.6mm, Pitch 1.27mm, IPC Low Density)
3D model MC68HC05-777-02 (44-Pin Plastic Leaded Chip Carrier 1.27 mm Pitch)
pins: 1 ~{RESET} (io), 2 ~{IRQ} (in), 3 NC, 4 NC, 5 PA7 (io), 6 PA6 (io), 7 PA5 (io), 8 PA4 (io), 9 PA3 (io), 10 PA2 (io), 11 PA1 (io), 12 PA0 (io), 13 PB0 (io), 14 PB1 (io), 15 PB2 (io), 16 PB3 (io), 17 NC, 18 PB4 (io), 19 PB5 (io), 20 PB6 (io), 21 PB7 (io), 22 VSS (power), 23 NC, 24 PC7 (io), 25 PC6 (io), 26 PC5 (io), 27 PC4 (io), 28 PC3 (io), 29 PC2 (io), 30 PC1 (io), 31 PC0 (io), 32 PD0/RDI (io), 33 PD1/TDO (io), 34 PD2/MISO (io), 35 PD3/MOSI (io), 36 PD4/SCK (io), 37 PD5/~{SS} (io), 38 TCMP (out), 39 NC, 40 PD7 (io), 41 TCAP (in), 42 OSC2, 43 OSC1, 44 VDD (power)

## MC68HC05C9ACP
designator U?
8-Bit Microcontroller; Note: If MC68HC705C9A devices are to be used in the same socket, pin 3 should be tied to VDD.; Published: 17-Jan-2003; LatestRevisionDate: 06-Jun-2005; LatestRevisionNote: Stylized 3D Model Added.; DatasheetVersion: Rev 5, 2000; PackageReference: 711-03; Publisher: Altium Limited; PackageDescription: DIP; 40 Leads; Row Spacing 15.24 mm; Pitch 2.54 mm; ComponentLink1Description: Manufacturer Link; ComponentLink1URL: http://www.freescale.com/; ComponentLink2Description: Datasheet; ComponentLink2URL: http://www.freescale.com/files/microcontrollers/doc/data_sheet/MC68HC05C9A.pdf
footprint 711-03 (DIP; 40 Leads; Row Spacing 15.24 mm; Pitch 2.54 mm)
3D model 711-03 (DIP; 40 Leads; Row Spacing 15.24 mm; Pitch 2.54 mm)
pins: 1 ~{RESET} (io), 2 ~{IRQ} (in), 3 NC, 4 PA7 (io), 5 PA6 (io), 6 PA5 (io), 7 PA4 (io), 8 PA3 (io), 9 PA2 (io), 10 PA1 (io), 11 PA0 (io), 12 PB0 (io), 13 PB1 (io), 14 PB2 (io), 15 PB3 (io), 16 PB4 (io), 17 PB5 (io), 18 PB6 (io), 19 PB7 (io), 20 VSS (power), 21 PC7 (io), 22 PC6 (io), 23 PC5 (io), 24 PC4 (io), 25 PC3 (io), 26 PC2 (io), 27 PC1 (io), 28 PC0 (io), 29 PD0/RDI (io), 30 PD1/TDO (io), 31 PD2/MISO (io), 32 PD3/MOSI (io), 33 PD4/SCK (io), 34 PD5/~{SS} (io), 35 TCMP (out), 36 PD7 (io), 37 TCAP (in), 38 OSC2, 39 OSC1, 40 VDD (power)

## MC68HC05C9AFB
designator U?
8-Bit Microcontroller; Note: If MC68HC705C9A devices are to be used in the same socket, pin 43 should be tied to VDD.; Published: 17-Jan-2003; LatestRevisionDate: 13-Apr-2006; LatestRevisionNote: IPC-7351 Footprint Added.; DatasheetVersion: Rev 5, 2000; PackageVersion: rev5, Apr-2002; PackageReference: 824A-01; Publisher: Altium Limited; PackageDescription: 44-Pin Quad Flat Pack 0.8 mm Pitch; Code_JEDEC: MS-022-AB; Code_IPC: QFP80P1320X1320-44; ComponentLink1Description: Manufacturer Link; ComponentLink1URL: http://www.freescale.com/; ComponentLink2Description: Datasheet; ComponentLink2URL: http://www.freescale.com/files/microcontrollers/doc/data_sheet/MC68HC05C9A.pdf
footprint 824A-01_N (QFP, 44-Leads, Body 10x10mm, Pitch 0.8mm, IPC Medium Density)
footprint 824A-01_L (QFP, 44-Leads, Body 10x10mm, Pitch 0.8mm, IPC High Density)
footprint 824A-01_M (QFP, 44-Leads, Body 10x10mm, Pitch 0.8mm, IPC Low Density)
3D model MC68HC05-824A-01 (44-Pin Quad Flat Pack 0.8 mm Pitch)
pins: 1 PA6 (io), 2 PA5 (io), 3 PA4 (io), 4 PA3 (io), 5 PA2 (io), 6 PA1 (io), 7 PA0 (io), 8 PB0 (io), 9 PB1 (io), 10 PB2 (io), 11 PB3 (io), 12 PB4 (io), 13 PB5 (io), 14 PB6 (io), 15 PB7 (io), 16 NC, 17 VSS (power), 18 PC7 (io), 19 PC6 (io), 20 PC5 (io), 21 PC4 (io), 22 NC, 23 PC3 (io), 24 PC2 (io), 25 PC1 (io), 26 PC0 (io), 27 PD0/RDI (io), 28 PD1/TDO (io), 29 PD2/MISO (io), 30 PD3/MOSI (io), 31 PD4/SCK (io), 32 PD5/~{SS} (io), 33 TCMP (out), 34 PD7 (io), 35 TCAP (in), 36 OSC2, 37 OSC1, 38 VDD (power), 39 NC, 40 NC, 41 ~{RESET} (io), 42 ~{IRQ} (in), 43 NC, 44 PA7 (io)

## MC68HC05C9AFN
designator U?
8-Bit Microcontroller; Note: If MC68HC705C9A devices are to be used in the same socket, pin 3 should be tied to VDD.; Note: For compatibility with MC68HC05C4A/C8A/C12A devices in 44-pin PLCC, tie pins 17 & 18 together, and tie pins 39 & 40 together.; Note: For compatibility with MC68HC705C8A 44-pin PLCC device, 3 sets of pins should be tied together - pins 17 & 18, 39 & 40, and pins 3, 4, & 44.; Published: 17-Jan-2003; LatestRevisionDate: 13-Apr-2006; LatestRevisionNote: IPC-7351 Footprint Added.; DatasheetVersion: Rev 5, 2000; PackageVersion: rev3, Feb-2002; PackageReference: 777-02; Publisher: Altium Limited; PackageDescription: 44-Pin Plastic Leaded Chip Carrier 1.27 mm Pitch; ComponentLink1Description: Manufacturer Link; ComponentLink1URL: http://www.freescale.com/; ComponentLink2Description: Datasheet; ComponentLink2URL: http://www.freescale.com/files/microcontrollers/doc/data_sheet/MC68HC05C9A.pdf
footprint 777-02_N (Leaded Chip Carrier, 44-Leads, Body 16.6x16.6mm, Pitch 1.27mm, IPC Medium Density)
footprint 777-02_L (Leaded Chip Carrier, 44-Leads, Body 16.6x16.6mm, Pitch 1.27mm, IPC High Density)
footprint 777-02_M (Leaded Chip Carrier, 44-Leads, Body 16.6x16.6mm, Pitch 1.27mm, IPC Low Density)
3D model MC68HC05-777-02 (44-Pin Plastic Leaded Chip Carrier 1.27 mm Pitch)
pins: 1 ~{RESET} (io), 2 ~{IRQ} (in), 3 NC, 4 NC, 5 PA7 (io), 6 PA6 (io), 7 PA5 (io), 8 PA4 (io), 9 PA3 (io), 10 PA2 (io), 11 PA1 (io), 12 PA0 (io), 13 PB0 (io), 14 PB1 (io), 15 PB2 (io), 16 PB3 (io), 17 NC, 18 PB4 (io), 19 PB5 (io), 20 PB6 (io), 21 PB7 (io), 22 VSS (power), 23 NC, 24 PC7 (io), 25 PC6 (io), 26 PC5 (io), 27 PC4 (io), 28 PC3 (io), 29 PC2 (io), 30 PC1 (io), 31 PC0 (io), 32 PD0/RDI (io), 33 PD1/TDO (io), 34 PD2/MISO (io), 35 PD3/MOSI (io), 36 PD4/SCK (io), 37 PD5/~{SS} (io), 38 TCMP (out), 39 NC, 40 PD7 (io), 41 TCAP (in), 42 OSC2, 43 OSC1, 44 VDD (power)

## MC68HC05C9AMB
designator U?
8-Bit Microcontroller; Note: If MC68HC705C9A devices are to be used in the same socket, pin 3 should be tied to VDD.; Published: 17-Jan-2003; LatestRevisionDate: 06-Jun-2005; LatestRevisionNote: Stylized 3D Model Added.; DatasheetVersion: Rev 5, 2000; PackageVersion: rev5, Apr-2002; PackageReference: 858-01; Publisher: Altium Limited; PackageDescription: DIP, Plastic; 42 Leads; Row Spacing 15.24 mm; Pitch 1.778 mm; ComponentLink1Description: Manufacturer Link; ComponentLink1URL: http://www.freescale.com/; ComponentLink2Description: Datasheet; ComponentLink2URL: http://www.freescale.com/files/microcontrollers/doc/data_sheet/MC68HC05C9A.pdf
footprint 858-01 (DIP, Plastic; 42 Leads; Row Spacing 15.24 mm; Pitch 1.778 mm)
3D model 858-01 (DIP, Plastic; 42 Leads; Row Spacing 15.24 mm; Pitch 1.778 mm)
pins: 1 ~{RESET} (io), 2 ~{IRQ} (in), 3 NC, 4 PA7 (io), 5 PA6 (io), 6 PA5 (io), 7 PA4 (io), 8 PA3 (io), 9 PA2 (io), 10 PA1 (io), 11 PA0 (io), 12 PB0 (io), 13 PB1 (io), 14 PB2 (io), 15 PB3 (io), 16 NC, 17 PB4 (io), 18 PB5 (io), 19 PB6 (io), 20 PB7 (io), 21 VSS (power), 22 PC7 (io), 23 PC6 (io), 24 PC5 (io), 25 PC4 (io), 26 PC3 (io), 27 NC, 28 PC2 (io), 29 PC1 (io), 30 PC0 (io), 31 PD0/RDI (io), 32 PD1/TDO (io), 33 PD2/MISO (io), 34 PD3/MOSI (io), 35 PD4/SCK (io), 36 PD5/~{SS} (io), 37 TCMP (out), 38 PD7 (io), 39 TCAP (in), 40 OSC2, 41 OSC1, 42 VDD (power)

## MC68HC05C9AMFB
designator U?
8-Bit Microcontroller; Note: If MC68HC705C9A devices are to be used in the same socket, pin 43 should be tied to VDD.; Published: 17-Jan-2003; LatestRevisionDate: 13-Apr-2006; LatestRevisionNote: IPC-7351 Footprint Added.; DatasheetVersion: Rev 5, 2000; PackageVersion: rev5, Apr-2002; PackageReference: 824A-01; Publisher: Altium Limited; PackageDescription: 44-Pin Quad Flat Pack 0.8 mm Pitch; Code_JEDEC: MS-022-AB; Code_IPC: QFP80P1320X1320-44; ComponentLink1Description: Manufacturer Link; ComponentLink1URL: http://www.freescale.com/; ComponentLink2Description: Datasheet; ComponentLink2URL: http://www.freescale.com/files/microcontrollers/doc/data_sheet/MC68HC05C9A.pdf
footprint 824A-01_N (QFP, 44-Leads, Body 10x10mm, Pitch 0.8mm, IPC Medium Density)
footprint 824A-01_L (QFP, 44-Leads, Body 10x10mm, Pitch 0.8mm, IPC High Density)
footprint 824A-01_M (QFP, 44-Leads, Body 10x10mm, Pitch 0.8mm, IPC Low Density)
3D model MC68HC05-824A-01 (44-Pin Quad Flat Pack 0.8 mm Pitch)
pins: 1 PA6 (io), 2 PA5 (io), 3 PA4 (io), 4 PA3 (io), 5 PA2 (io), 6 PA1 (io), 7 PA0 (io), 8 PB0 (io), 9 PB1 (io), 10 PB2 (io), 11 PB3 (io), 12 PB4 (io), 13 PB5 (io), 14 PB6 (io), 15 PB7 (io), 16 NC, 17 VSS (power), 18 PC7 (io), 19 PC6 (io), 20 PC5 (io), 21 PC4 (io), 22 NC, 23 PC3 (io), 24 PC2 (io), 25 PC1 (io), 26 PC0 (io), 27 PD0/RDI (io), 28 PD1/TDO (io), 29 PD2/MISO (io), 30 PD3/MOSI (io), 31 PD4/SCK (io), 32 PD5/~{SS} (io), 33 TCMP (out), 34 PD7 (io), 35 TCAP (in), 36 OSC2, 37 OSC1, 38 VDD (power), 39 NC, 40 NC, 41 ~{RESET} (io), 42 ~{IRQ} (in), 43 NC, 44 PA7 (io)

## MC68HC05C9AMFN
designator U?
8-Bit Microcontroller; Note: If MC68HC705C9A devices are to be used in the same socket, pin 3 should be tied to VDD.; Note: For compatibility with MC68HC05C4A/C8A/C12A devices in 44-pin PLCC, tie pins 17 & 18 together, and tie pins 39 & 40 together.; Note: For compatibility with MC68HC705C8A 44-pin PLCC device, 3 sets of pins should be tied together - pins 17 & 18, 39 & 40, and pins 3, 4, & 44.; Published: 17-Jan-2003; LatestRevisionDate: 13-Apr-2006; LatestRevisionNote: IPC-7351 Footprint Added.; DatasheetVersion: Rev 5, 2000; PackageVersion: rev3, Feb-2002; PackageReference: 777-02; Publisher: Altium Limited; PackageDescription: 44-Pin Plastic Leaded Chip Carrier 1.27 mm Pitch; ComponentLink1Description: Manufacturer Link; ComponentLink1URL: http://www.freescale.com/; ComponentLink2Description: Datasheet; ComponentLink2URL: http://www.freescale.com/files/microcontrollers/doc/data_sheet/MC68HC05C9A.pdf
footprint 777-02_N (Leaded Chip Carrier, 44-Leads, Body 16.6x16.6mm, Pitch 1.27mm, IPC Medium Density)
footprint 777-02_L (Leaded Chip Carrier, 44-Leads, Body 16.6x16.6mm, Pitch 1.27mm, IPC High Density)
footprint 777-02_M (Leaded Chip Carrier, 44-Leads, Body 16.6x16.6mm, Pitch 1.27mm, IPC Low Density)
3D model MC68HC05-777-02 (44-Pin Plastic Leaded Chip Carrier 1.27 mm Pitch)
pins: 1 ~{RESET} (io), 2 ~{IRQ} (in), 3 NC, 4 NC, 5 PA7 (io), 6 PA6 (io), 7 PA5 (io), 8 PA4 (io), 9 PA3 (io), 10 PA2 (io), 11 PA1 (io), 12 PA0 (io), 13 PB0 (io), 14 PB1 (io), 15 PB2 (io), 16 PB3 (io), 17 NC, 18 PB4 (io), 19 PB5 (io), 20 PB6 (io), 21 PB7 (io), 22 VSS (power), 23 NC, 24 PC7 (io), 25 PC6 (io), 26 PC5 (io), 27 PC4 (io), 28 PC3 (io), 29 PC2 (io), 30 PC1 (io), 31 PC0 (io), 32 PD0/RDI (io), 33 PD1/TDO (io), 34 PD2/MISO (io), 35 PD3/MOSI (io), 36 PD4/SCK (io), 37 PD5/~{SS} (io), 38 TCMP (out), 39 NC, 40 PD7 (io), 41 TCAP (in), 42 OSC2, 43 OSC1, 44 VDD (power)

## MC68HC05C9AMP
designator U?
8-Bit Microcontroller; Note: If MC68HC705C9A devices are to be used in the same socket, pin 3 should be tied to VDD.; Published: 17-Jan-2003; LatestRevisionDate: 06-Jun-2005; LatestRevisionNote: Stylized 3D Model Added.; DatasheetVersion: Rev 5, 2000; PackageReference: 711-03; Publisher: Altium Limited; PackageDescription: DIP; 40 Leads; Row Spacing 15.24 mm; Pitch 2.54 mm; ComponentLink1Description: Manufacturer Link; ComponentLink1URL: http://www.freescale.com/; ComponentLink2Description: Datasheet; ComponentLink2URL: http://www.freescale.com/files/microcontrollers/doc/data_sheet/MC68HC05C9A.pdf
footprint 711-03 (DIP; 40 Leads; Row Spacing 15.24 mm; Pitch 2.54 mm)
3D model 711-03 (DIP; 40 Leads; Row Spacing 15.24 mm; Pitch 2.54 mm)
pins: 1 ~{RESET} (io), 2 ~{IRQ} (in), 3 NC, 4 PA7 (io), 5 PA6 (io), 6 PA5 (io), 7 PA4 (io), 8 PA3 (io), 9 PA2 (io), 10 PA1 (io), 11 PA0 (io), 12 PB0 (io), 13 PB1 (io), 14 PB2 (io), 15 PB3 (io), 16 PB4 (io), 17 PB5 (io), 18 PB6 (io), 19 PB7 (io), 20 VSS (power), 21 PC7 (io), 22 PC6 (io), 23 PC5 (io), 24 PC4 (io), 25 PC3 (io), 26 PC2 (io), 27 PC1 (io), 28 PC0 (io), 29 PD0/RDI (io), 30 PD1/TDO (io), 31 PD2/MISO (io), 32 PD3/MOSI (io), 33 PD4/SCK (io), 34 PD5/~{SS} (io), 35 TCMP (out), 36 PD7 (io), 37 TCAP (in), 38 OSC2, 39 OSC1, 40 VDD (power)

## MC68HC05C9AP
designator U?
8-Bit Microcontroller; Note: If MC68HC705C9A devices are to be used in the same socket, pin 3 should be tied to VDD.; Published: 17-Jan-2003; LatestRevisionDate: 06-Jun-2005; LatestRevisionNote: Stylized 3D Model Added.; DatasheetVersion: Rev 5, 2000; PackageReference: 711-03; Publisher: Altium Limited; PackageDescription: DIP; 40 Leads; Row Spacing 15.24 mm; Pitch 2.54 mm; ComponentLink1Description: Manufacturer Link; ComponentLink1URL: http://www.freescale.com/; ComponentLink2Description: Datasheet; ComponentLink2URL: http://www.freescale.com/files/microcontrollers/doc/data_sheet/MC68HC05C9A.pdf
footprint 711-03 (DIP; 40 Leads; Row Spacing 15.24 mm; Pitch 2.54 mm)
3D model 711-03 (DIP; 40 Leads; Row Spacing 15.24 mm; Pitch 2.54 mm)
pins: 1 ~{RESET} (io), 2 ~{IRQ} (in), 3 NC, 4 PA7 (io), 5 PA6 (io), 6 PA5 (io), 7 PA4 (io), 8 PA3 (io), 9 PA2 (io), 10 PA1 (io), 11 PA0 (io), 12 PB0 (io), 13 PB1 (io), 14 PB2 (io), 15 PB3 (io), 16 PB4 (io), 17 PB5 (io), 18 PB6 (io), 19 PB7 (io), 20 VSS (power), 21 PC7 (io), 22 PC6 (io), 23 PC5 (io), 24 PC4 (io), 25 PC3 (io), 26 PC2 (io), 27 PC1 (io), 28 PC0 (io), 29 PD0/RDI (io), 30 PD1/TDO (io), 31 PD2/MISO (io), 32 PD3/MOSI (io), 33 PD4/SCK (io), 34 PD5/~{SS} (io), 35 TCMP (out), 36 PD7 (io), 37 TCAP (in), 38 OSC2, 39 OSC1, 40 VDD (power)

## MC68HC05C9AVB
designator U?
8-Bit Microcontroller; Note: If MC68HC705C9A devices are to be used in the same socket, pin 3 should be tied to VDD.; Published: 17-Jan-2003; LatestRevisionDate: 06-Jun-2005; LatestRevisionNote: Stylized 3D Model Added.; DatasheetVersion: Rev 5, 2000; PackageVersion: rev5, Apr-2002; PackageReference: 858-01; Publisher: Altium Limited; PackageDescription: DIP, Plastic; 42 Leads; Row Spacing 15.24 mm; Pitch 1.778 mm; ComponentLink1Description: Manufacturer Link; ComponentLink1URL: http://www.freescale.com/; ComponentLink2Description: Datasheet; ComponentLink2URL: http://www.freescale.com/files/microcontrollers/doc/data_sheet/MC68HC05C9A.pdf
footprint 858-01 (DIP, Plastic; 42 Leads; Row Spacing 15.24 mm; Pitch 1.778 mm)
3D model 858-01 (DIP, Plastic; 42 Leads; Row Spacing 15.24 mm; Pitch 1.778 mm)
pins: 1 ~{RESET} (io), 2 ~{IRQ} (in), 3 NC, 4 PA7 (io), 5 PA6 (io), 6 PA5 (io), 7 PA4 (io), 8 PA3 (io), 9 PA2 (io), 10 PA1 (io), 11 PA0 (io), 12 PB0 (io), 13 PB1 (io), 14 PB2 (io), 15 PB3 (io), 16 NC, 17 PB4 (io), 18 PB5 (io), 19 PB6 (io), 20 PB7 (io), 21 VSS (power), 22 PC7 (io), 23 PC6 (io), 24 PC5 (io), 25 PC4 (io), 26 PC3 (io), 27 NC, 28 PC2 (io), 29 PC1 (io), 30 PC0 (io), 31 PD0/RDI (io), 32 PD1/TDO (io), 33 PD2/MISO (io), 34 PD3/MOSI (io), 35 PD4/SCK (io), 36 PD5/~{SS} (io), 37 TCMP (out), 38 PD7 (io), 39 TCAP (in), 40 OSC2, 41 OSC1, 42 VDD (power)

## MC68HC05C9AVFB
designator U?
8-Bit Microcontroller; Note: If MC68HC705C9A devices are to be used in the same socket, pin 43 should be tied to VDD.; Published: 17-Jan-2003; LatestRevisionDate: 13-Apr-2006; LatestRevisionNote: IPC-7351 Footprint Added.; DatasheetVersion: Rev 5, 2000; PackageVersion: rev5, Apr-2002; PackageReference: 824A-01; Publisher: Altium Limited; PackageDescription: 44-Pin Quad Flat Pack 0.8 mm Pitch; Code_JEDEC: MS-022-AB; Code_IPC: QFP80P1320X1320-44; ComponentLink1Description: Manufacturer Link; ComponentLink1URL: http://www.freescale.com/; ComponentLink2Description: Datasheet; ComponentLink2URL: http://www.freescale.com/files/microcontrollers/doc/data_sheet/MC68HC05C9A.pdf
footprint 824A-01_N (QFP, 44-Leads, Body 10x10mm, Pitch 0.8mm, IPC Medium Density)
footprint 824A-01_L (QFP, 44-Leads, Body 10x10mm, Pitch 0.8mm, IPC High Density)
footprint 824A-01_M (QFP, 44-Leads, Body 10x10mm, Pitch 0.8mm, IPC Low Density)
3D model MC68HC05-824A-01 (44-Pin Quad Flat Pack 0.8 mm Pitch)
pins: 1 PA6 (io), 2 PA5 (io), 3 PA4 (io), 4 PA3 (io), 5 PA2 (io), 6 PA1 (io), 7 PA0 (io), 8 PB0 (io), 9 PB1 (io), 10 PB2 (io), 11 PB3 (io), 12 PB4 (io), 13 PB5 (io), 14 PB6 (io), 15 PB7 (io), 16 NC, 17 VSS (power), 18 PC7 (io), 19 PC6 (io), 20 PC5 (io), 21 PC4 (io), 22 NC, 23 PC3 (io), 24 PC2 (io), 25 PC1 (io), 26 PC0 (io), 27 PD0/RDI (io), 28 PD1/TDO (io), 29 PD2/MISO (io), 30 PD3/MOSI (io), 31 PD4/SCK (io), 32 PD5/~{SS} (io), 33 TCMP (out), 34 PD7 (io), 35 TCAP (in), 36 OSC2, 37 OSC1, 38 VDD (power), 39 NC, 40 NC, 41 ~{RESET} (io), 42 ~{IRQ} (in), 43 NC, 44 PA7 (io)

## MC68HC05C9AVFN
designator U?
8-Bit Microcontroller; Note: If MC68HC705C9A devices are to be used in the same socket, pin 3 should be tied to VDD.; Note: For compatibility with MC68HC05C4A/C8A/C12A devices in 44-pin PLCC, tie pins 17 & 18 together, and tie pins 39 & 40 together.; Note: For compatibility with MC68HC705C8A 44-pin PLCC device, 3 sets of pins should be tied together - pins 17 & 18, 39 & 40, and pins 3, 4, & 44.; Published: 17-Jan-2003; LatestRevisionDate: 13-Apr-2006; LatestRevisionNote: IPC-7351 Footprint Added.; DatasheetVersion: Rev 5, 2000; PackageVersion: rev3, Feb-2002; PackageReference: 777-02; Publisher: Altium Limited; PackageDescription: 44-Pin Plastic Leaded Chip Carrier 1.27 mm Pitch; ComponentLink1Description: Manufacturer Link; ComponentLink1URL: http://www.freescale.com/; ComponentLink2Description: Datasheet; ComponentLink2URL: http://www.freescale.com/files/microcontrollers/doc/data_sheet/MC68HC05C9A.pdf
footprint 777-02_N (Leaded Chip Carrier, 44-Leads, Body 16.6x16.6mm, Pitch 1.27mm, IPC Medium Density)
footprint 777-02_L (Leaded Chip Carrier, 44-Leads, Body 16.6x16.6mm, Pitch 1.27mm, IPC High Density)
footprint 777-02_M (Leaded Chip Carrier, 44-Leads, Body 16.6x16.6mm, Pitch 1.27mm, IPC Low Density)
3D model MC68HC05-777-02 (44-Pin Plastic Leaded Chip Carrier 1.27 mm Pitch)
pins: 1 ~{RESET} (io), 2 ~{IRQ} (in), 3 NC, 4 NC, 5 PA7 (io), 6 PA6 (io), 7 PA5 (io), 8 PA4 (io), 9 PA3 (io), 10 PA2 (io), 11 PA1 (io), 12 PA0 (io), 13 PB0 (io), 14 PB1 (io), 15 PB2 (io), 16 PB3 (io), 17 NC, 18 PB4 (io), 19 PB5 (io), 20 PB6 (io), 21 PB7 (io), 22 VSS (power), 23 NC, 24 PC7 (io), 25 PC6 (io), 26 PC5 (io), 27 PC4 (io), 28 PC3 (io), 29 PC2 (io), 30 PC1 (io), 31 PC0 (io), 32 PD0/RDI (io), 33 PD1/TDO (io), 34 PD2/MISO (io), 35 PD3/MOSI (io), 36 PD4/SCK (io), 37 PD5/~{SS} (io), 38 TCMP (out), 39 NC, 40 PD7 (io), 41 TCAP (in), 42 OSC2, 43 OSC1, 44 VDD (power)

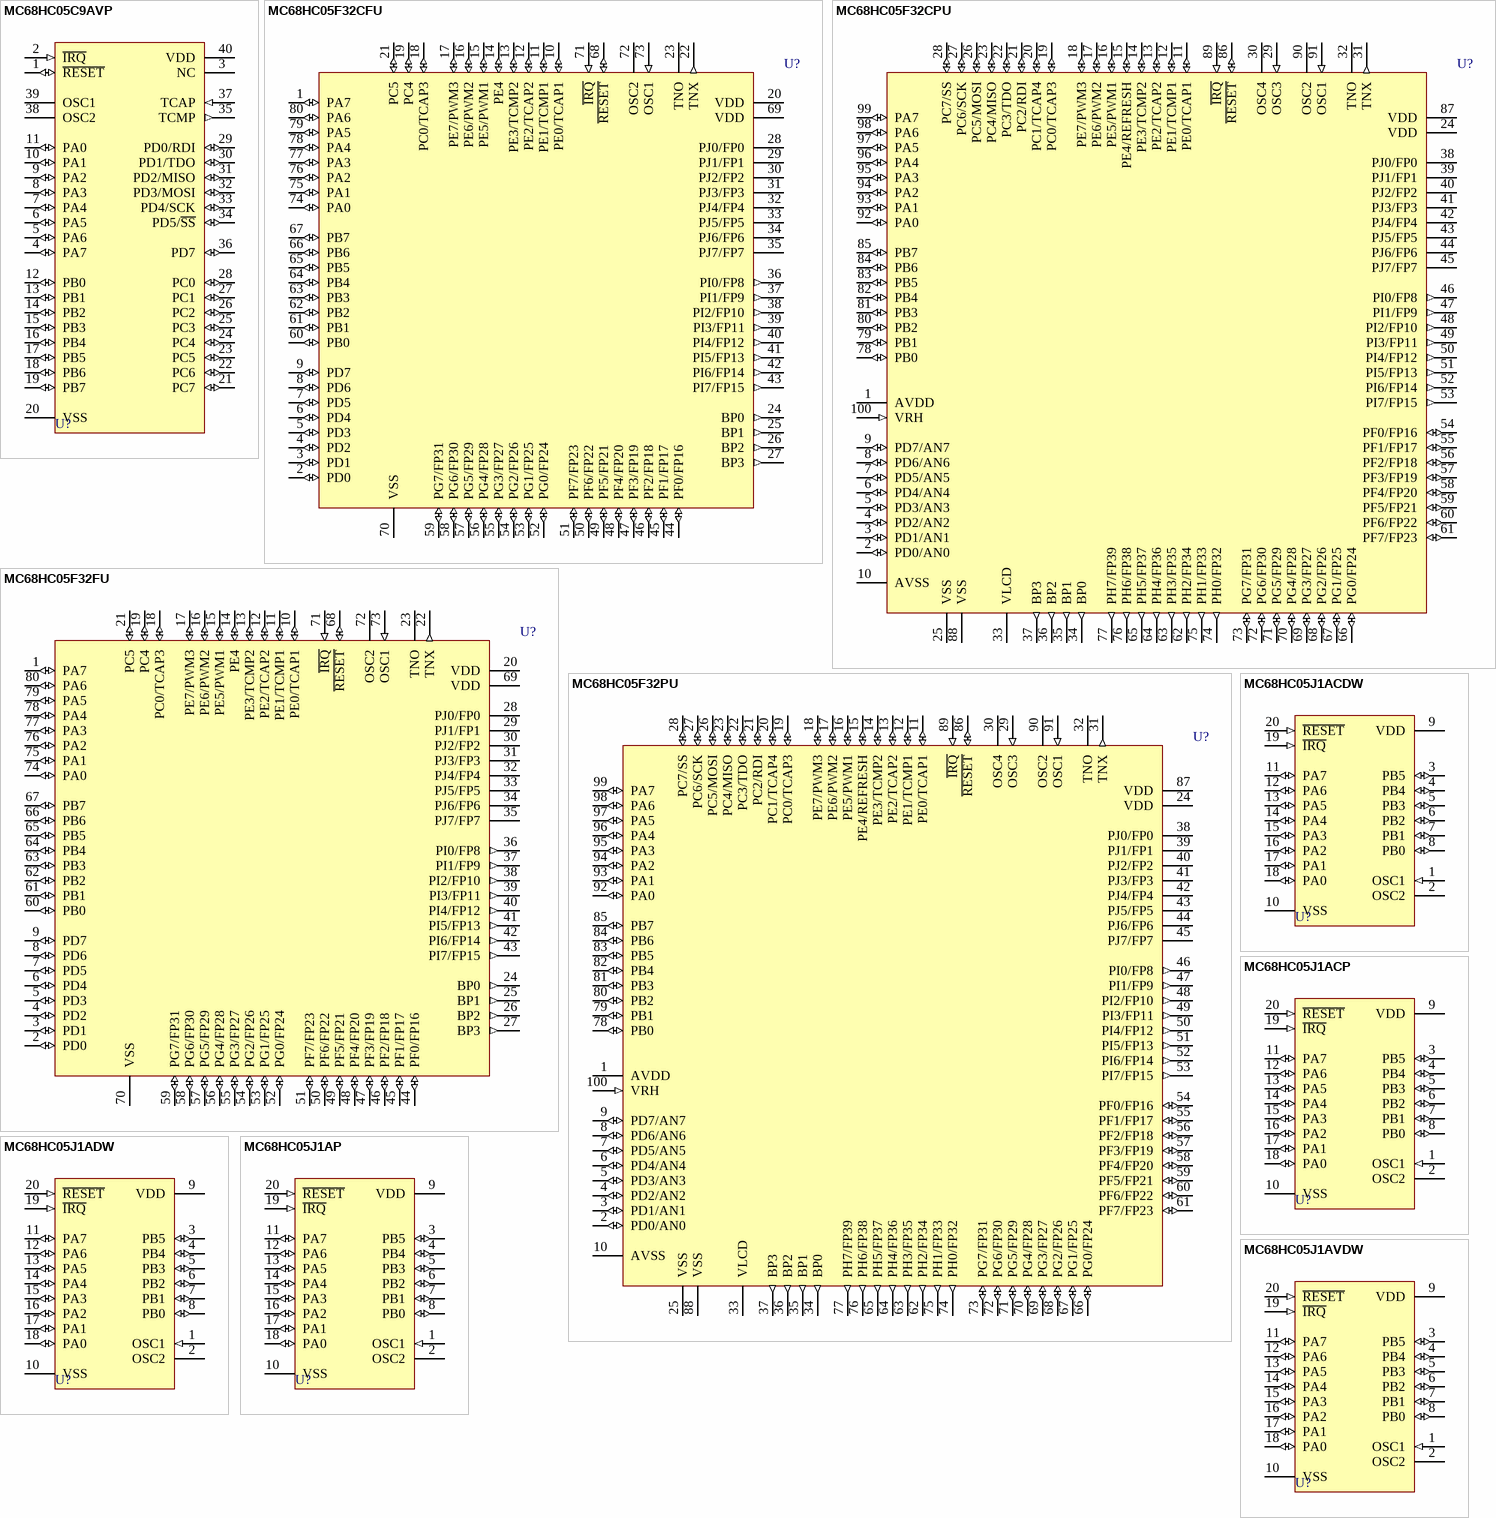
[diagram p9: symbols MC68HC05C9AVP to MC68HC05J1AVDW]

## MC68HC05C9AVP
designator U?
8-Bit Microcontroller; Note: If MC68HC705C9A devices are to be used in the same socket, pin 3 should be tied to VDD.; Published: 17-Jan-2003; LatestRevisionDate: 06-Jun-2005; LatestRevisionNote: Stylized 3D Model Added.; DatasheetVersion: Rev 5, 2000; PackageReference: 711-03; Publisher: Altium Limited; PackageDescription: DIP; 40 Leads; Row Spacing 15.24 mm; Pitch 2.54 mm; ComponentLink1Description: Manufacturer Link; ComponentLink1URL: http://www.freescale.com/; ComponentLink2Description: Datasheet; ComponentLink2URL: http://www.freescale.com/files/microcontrollers/doc/data_sheet/MC68HC05C9A.pdf
footprint 711-03 (DIP; 40 Leads; Row Spacing 15.24 mm; Pitch 2.54 mm)
3D model 711-03 (DIP; 40 Leads; Row Spacing 15.24 mm; Pitch 2.54 mm)
pins: 1 ~{RESET} (io), 2 ~{IRQ} (in), 3 NC, 4 PA7 (io), 5 PA6 (io), 6 PA5 (io), 7 PA4 (io), 8 PA3 (io), 9 PA2 (io), 10 PA1 (io), 11 PA0 (io), 12 PB0 (io), 13 PB1 (io), 14 PB2 (io), 15 PB3 (io), 16 PB4 (io), 17 PB5 (io), 18 PB6 (io), 19 PB7 (io), 20 VSS (power), 21 PC7 (io), 22 PC6 (io), 23 PC5 (io), 24 PC4 (io), 25 PC3 (io), 26 PC2 (io), 27 PC1 (io), 28 PC0 (io), 29 PD0/RDI (io), 30 PD1/TDO (io), 31 PD2/MISO (io), 32 PD3/MOSI (io), 33 PD4/SCK (io), 34 PD5/~{SS} (io), 35 TCMP (out), 36 PD7 (io), 37 TCAP (in), 38 OSC2, 39 OSC1, 40 VDD (power)

## MC68HC05F32CFU
designator U?
High Density HCMOS microcontroller unit; Published: 17-Jan-2003; LatestRevisionDate: 13-Apr-2006; LatestRevisionNote: IPC-7351 Footprint Added.; DatasheetVersion: 1998; PackageVersion: Jul-1998; PackageReference: 841B-01; Publisher: Altium Limited; PackageDescription: 80-Pin Quad Flat Pack 0.65 mm Pitch; Code_IPC: QFP65P1720X1720-80; ComponentLink1Description: Manufacturer Link; ComponentLink1URL: http://www.freescale.com/
footprint 841B-01_N (QFP, 80-Leads, Body 14 x 14mm, Pitch 0.65mm, IPC Medium Density)
footprint 841B-01_L (QFP, 80-Leads, Body 14 x 14mm, Pitch 0.65mm, IPC High Density)
footprint 841B-01_M (QFP, 80-Leads, Body 14 x 14mm, Pitch 0.65mm, IPC Low Density)
3D model MC68HC05-841B (80-Pin Quad Flat Pack 0.65 mm Pitch)
pins: 1 PA7 (io), 2 PD0 (io), 3 PD1 (io), 4 PD2 (io), 5 PD3 (io), 6 PD4 (io), 7 PD5 (io), 8 PD6 (io), 9 PD7 (io), 10 PE0/TCAP1 (io), 11 PE1/TCMP1 (io), 12 PE2/TCAP2 (io), 13 PE3/TCMP2 (io), 14 PE4 (io), 15 PE5/PWM1 (io), 16 PE6/PWM2 (io), 17 PE7/PWM3 (io), 18 PC0/TCAP3 (io), 19 PC4 (io), 20 VDD (power), 21 PC5 (io), 22 TNX (out), 23 TNO (hiz), 24 BP0 (out), 25 BP1 (out), 26 BP2 (out), 27 BP3 (out), 28 PJ0/FP0 (oc), 29 PJ1/FP1 (oc), 30 PJ2/FP2 (oc), 31 PJ3/FP3 (oc), 32 PJ4/FP4 (oc), 33 PJ5/FP5 (oc), 34 PJ6/FP6 (oc), 35 PJ7/FP7 (oc), 36 PI0/FP8 (out), 37 PI1/FP9 (out), 38 PI2/FP10 (out), 39 PI3/FP11 (out), 40 PI4/FP12 (out), 41 PI5/FP13 (out), 42 PI6/FP14 (out), 43 PI7/FP15 (out), 44 PF0/FP16 (io), 45 PF1/FP17 (io), 46 PF2/FP18 (io), 47 PF3/FP19 (io), 48 PF4/FP20 (io), 49 PF5/FP21 (io), 50 PF6/FP22 (io), 51 PF7/FP23 (io), 52 PG0/FP24 (io), 53 PG1/FP25 (io), 54 PG2/FP26 (io), 55 PG3/FP27 (io), 56 PG4/FP28 (io), 57 PG5/FP29 (io), 58 PG6/FP30 (io), 59 PG7/FP31 (io), 60 PB0 (io), 61 PB1 (io), 62 PB2 (io), 63 PB3 (io), 64 PB4 (io), 65 PB5 (io), 66 PB6 (io), 67 PB7 (io), 68 ~{RESET} (io), 69 VDD (power), 70 VSS (power), 71 ~{IRQ} (in), 72 OSC2, 73 OSC1 (in), 74 PA0 (io), 75 PA1 (io), 76 PA2 (io), 77 PA3 (io), 78 PA4 (io), 79 PA5 (io), 80 PA6 (io)